# Altium footprint library Devindia_v2.0.PcbLib: 105 footprints (part 2 of 7)
Each footprint in its own frame and in the unit in brackets; x right, y up, seen from the top. Pads: shape width x height; smd on the part's side, far side on the other; paste and mask are expansions set on the pad; w line width, h text height; cw(c..) or ccw(c..) is an arc to the next point about the centre after c.
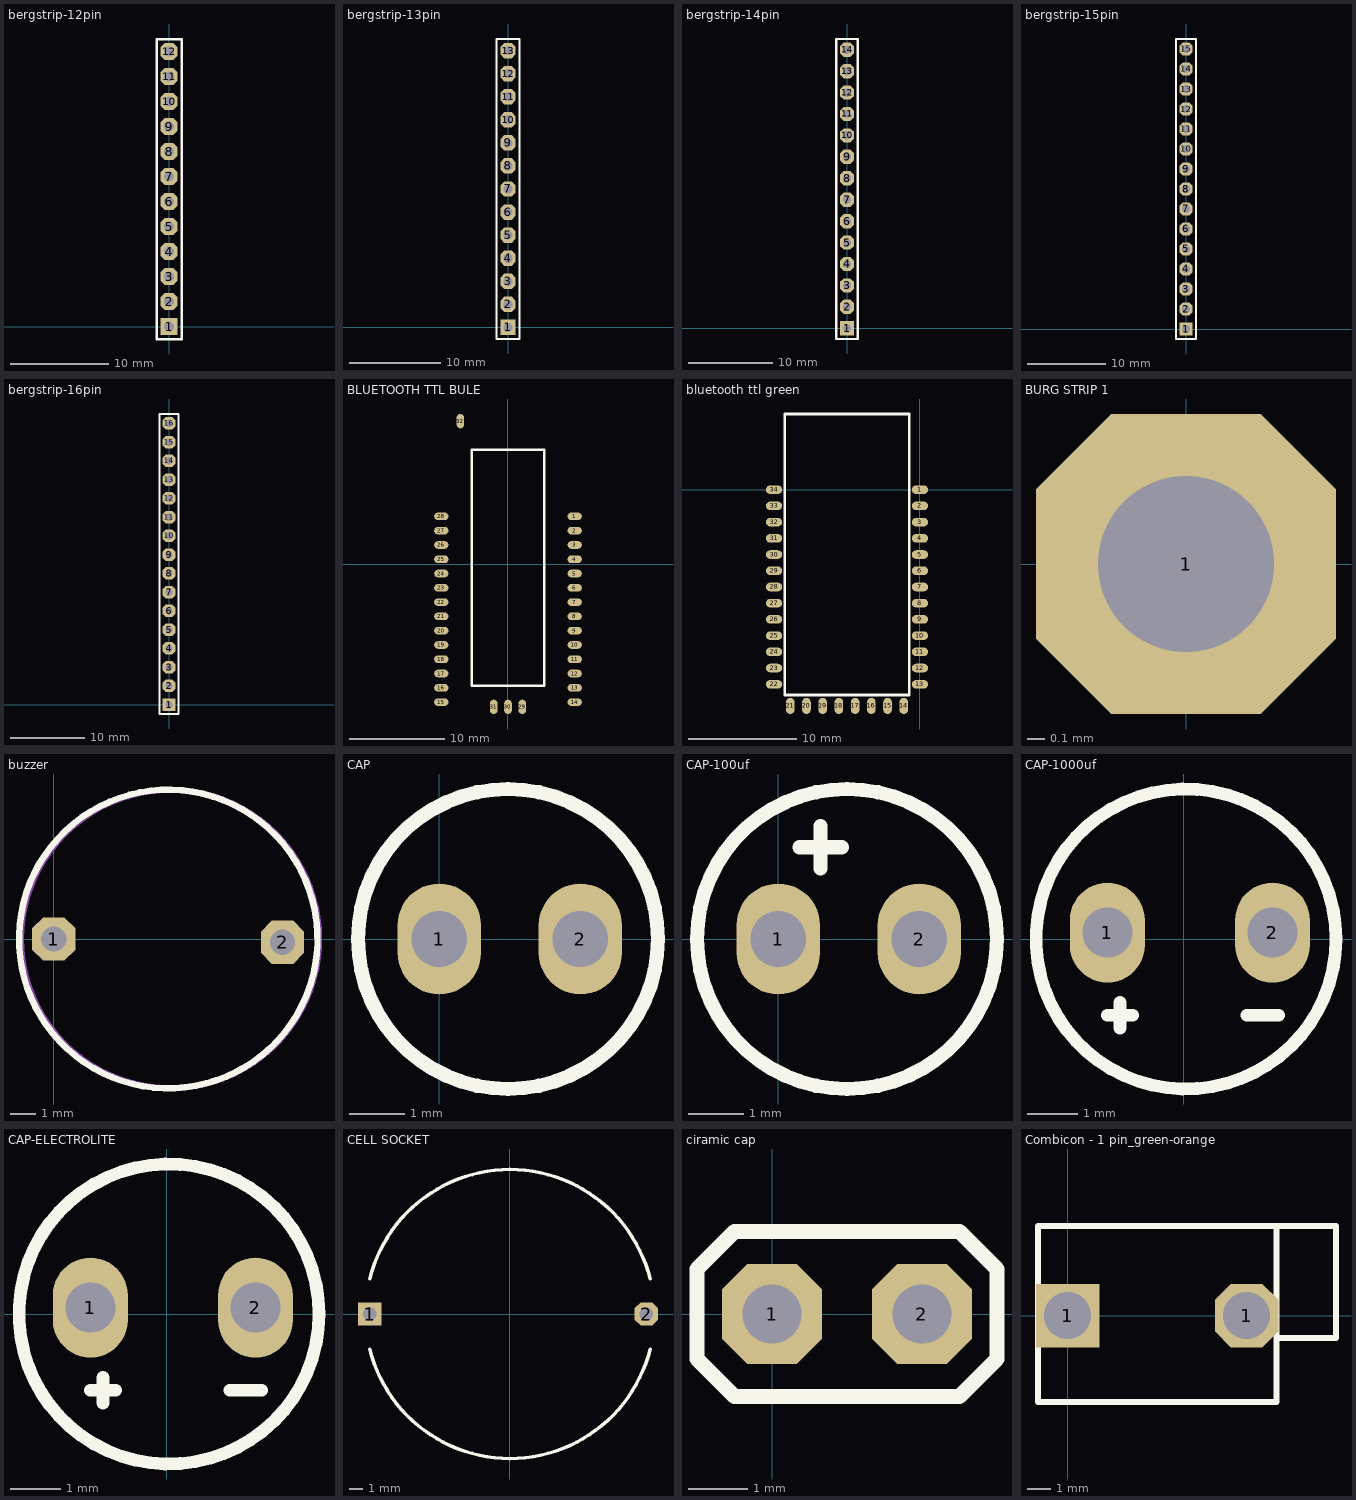
[diagram p1: the footprints below, top view; thin cyan lines are the x and y axes]

## bergstrip-12pin [mm]
pads (12):
  rect 1.7x1.7 hole 1: 1(0,0)
  oct 1.7x1.7 hole 1: 2(0,2.54) 3(0,5.08) 4(0,7.62) 5(0,10.16) 6(0,12.7) 7(0,15.24) 8(0,17.78) 9(0,20.32) 10(0,22.86) 11(0,25.4) 12(0,27.94)
Top Overlay:
  lines w0.254: -1.27,-1.27 -1.27,29.21 1.27,29.21 1.27,-1.27 -1.27,-1.27
3D body: height 9.89, standoff 2, extent -0.49,-0.508 0.508,0.488
3D body: height 2, standoff 0, extent -1.27,-1.27 1.27,1.27
3D body: height 9.89, standoff 2, extent -0.49,2.032 0.508,3.028
3D body: height 2, standoff 0, extent -1.27,1.27 1.27,3.81
3D body: height 9.89, standoff 2, extent -0.49,4.572 0.508,5.568
3D body: height 2, standoff 0, extent -1.27,3.81 1.27,6.35
3D body: height 9.89, standoff 2, extent -0.49,7.112 0.508,8.108
3D body: height 2, standoff 0, extent -1.27,6.35 1.27,8.89
3D body: height 9.89, standoff 2, extent -0.49,9.652 0.508,10.648
3D body: height 2, standoff 0, extent -1.27,8.89 1.27,11.43
3D body: height 9.89, standoff 2, extent -0.49,12.192 0.508,13.188
3D body: height 2, standoff 0, extent -1.27,11.43 1.27,13.97
3D body: height 9.89, standoff 2, extent -0.49,14.732 0.508,15.728
3D body: height 2, standoff 0, extent -1.27,13.97 1.27,16.51
3D body: height 9.89, standoff 2, extent -0.49,17.272 0.508,18.268
3D body: height 2, standoff 0, extent -1.27,16.51 1.27,19.05
3D body: height 9.89, standoff 2, extent -0.49,19.812 0.508,20.808
3D body: height 2, standoff 0, extent -1.27,19.05 1.27,21.59
3D body: height 9.89, standoff 2, extent -0.49,22.352 0.508,23.348
3D body: height 2, standoff 0, extent -1.27,21.59 1.27,24.13
3D body: height 9.89, standoff 2, extent -0.49,24.892 0.508,25.888
3D body: height 2, standoff 0, extent -1.27,24.13 1.27,26.67
3D body: height 9.89, standoff 2, extent -0.49,27.432 0.508,28.428
3D body: height 2, standoff 0, extent -1.27,26.67 1.27,29.21

## bergstrip-13pin [mm]
pads (13):
  rect 1.7x1.7 hole 1: 1(0,0)
  oct 1.7x1.7 hole 1: 2(0,2.54) 3(0,5.08) 4(0,7.62) 5(0,10.16) 6(0,12.7) 7(0,15.24) 8(0,17.78) 9(0,20.32) 10(0,22.86) 11(0,25.4) 12(0,27.94) 13(0,30.48)
Top Overlay:
  lines w0.254: -1.27,-1.27 1.27,-1.27 1.27,31.75 -1.27,31.75 -1.27,-1.27
3D body: height 2, standoff 0, extent -1.27,29.21 1.27,31.75
3D body: height 9.89, standoff 2, extent -0.49,29.972 0.508,30.968
3D body: height 2, standoff 0, extent -1.27,26.67 1.27,29.21
3D body: height 9.89, standoff 2, extent -0.49,27.432 0.508,28.428
3D body: height 2, standoff 0, extent -1.27,24.13 1.27,26.67
3D body: height 9.89, standoff 2, extent -0.49,24.892 0.508,25.888
3D body: height 2, standoff 0, extent -1.27,21.59 1.27,24.13
3D body: height 9.89, standoff 2, extent -0.49,22.352 0.508,23.348
3D body: height 2, standoff 0, extent -1.27,19.05 1.27,21.59
3D body: height 9.89, standoff 2, extent -0.49,19.812 0.508,20.808
3D body: height 2, standoff 0, extent -1.27,16.51 1.27,19.05
3D body: height 9.89, standoff 2, extent -0.49,17.272 0.508,18.268
3D body: height 2, standoff 0, extent -1.27,13.97 1.27,16.51
3D body: height 9.89, standoff 2, extent -0.49,14.732 0.508,15.728
3D body: height 2, standoff 0, extent -1.27,11.43 1.27,13.97
3D body: height 9.89, standoff 2, extent -0.49,12.192 0.508,13.188
3D body: height 2, standoff 0, extent -1.27,8.89 1.27,11.43
3D body: height 9.89, standoff 2, extent -0.49,9.652 0.508,10.648
3D body: height 2, standoff 0, extent -1.27,6.35 1.27,8.89
3D body: height 9.89, standoff 2, extent -0.49,7.112 0.508,8.108
3D body: height 2, standoff 0, extent -1.27,3.81 1.27,6.35
3D body: height 9.89, standoff 2, extent -0.49,4.572 0.508,5.568
3D body: height 2, standoff 0, extent -1.27,1.27 1.27,3.81
3D body: height 9.89, standoff 2, extent -0.49,2.032 0.508,3.028
3D body: height 2, standoff 0, extent -1.27,-1.27 1.27,1.27
3D body: height 9.89, standoff 2, extent -0.49,-0.508 0.508,0.488

## bergstrip-14pin [mm]
pads (14):
  rect 1.7x1.7 hole 1: 1(0,0)
  oct 1.7x1.7 hole 1: 2(0,2.54) 3(0,5.08) 4(0,7.62) 5(0,10.16) 6(0,12.7) 7(0,15.24) 8(0,17.78) 9(0,20.32) 10(0,22.86) 11(0,25.4) 12(0,27.94) 13(0,30.48) 14(0,33.02)
Top Overlay:
  lines w0.254: -1.27,-1.27 1.27,-1.27 1.27,34.29 -1.27,34.29 -1.27,-1.27
3D body: height 9.89, standoff 2, extent -0.49,-0.508 0.508,0.488
3D body: height 2, standoff 0, extent -1.27,-1.27 1.27,1.27
3D body: height 9.89, standoff 2, extent -0.49,2.032 0.508,3.028
3D body: height 2, standoff 0, extent -1.27,1.27 1.27,3.81
3D body: height 9.89, standoff 2, extent -0.49,4.572 0.508,5.568
3D body: height 2, standoff 0, extent -1.27,3.81 1.27,6.35
3D body: height 9.89, standoff 2, extent -0.49,7.112 0.508,8.108
3D body: height 2, standoff 0, extent -1.27,6.35 1.27,8.89
3D body: height 9.89, standoff 2, extent -0.49,9.652 0.508,10.648
3D body: height 2, standoff 0, extent -1.27,8.89 1.27,11.43
3D body: height 9.89, standoff 2, extent -0.49,12.192 0.508,13.188
3D body: height 2, standoff 0, extent -1.27,11.43 1.27,13.97
3D body: height 9.89, standoff 2, extent -0.49,14.732 0.508,15.728
3D body: height 2, standoff 0, extent -1.27,13.97 1.27,16.51
3D body: height 9.89, standoff 2, extent -0.49,17.272 0.508,18.268
3D body: height 2, standoff 0, extent -1.27,16.51 1.27,19.05
3D body: height 9.89, standoff 2, extent -0.49,19.812 0.508,20.808
3D body: height 2, standoff 0, extent -1.27,19.05 1.27,21.59
3D body: height 9.89, standoff 2, extent -0.49,22.352 0.508,23.348
3D body: height 2, standoff 0, extent -1.27,21.59 1.27,24.13
3D body: height 9.89, standoff 2, extent -0.49,24.892 0.508,25.888
3D body: height 2, standoff 0, extent -1.27,24.13 1.27,26.67
3D body: height 9.89, standoff 2, extent -0.49,27.432 0.508,28.428
3D body: height 2, standoff 0, extent -1.27,26.67 1.27,29.21
3D body: height 9.89, standoff 2, extent -0.49,29.972 0.508,30.968
3D body: height 2, standoff 0, extent -1.27,29.21 1.27,31.75
3D body: height 9.89, standoff 2, extent -0.49,32.512 0.508,33.508
3D body: height 2, standoff 0, extent -1.27,31.75 1.27,34.29

## bergstrip-15pin [mm]
pads (15):
  rect 1.7x1.7 hole 1: 1(0,0)
  oct 1.7x1.7 hole 1: 2(0,2.54) 3(0,5.08) 4(0,7.62) 5(0,10.16) 6(0,12.7) 7(0,15.24) 8(0,17.78) 9(0,20.32) 10(0,22.86) 11(0,25.4) 12(0,27.94) 13(0,30.48) 14(0,33.02) 15(0,35.56)
Top Overlay:
  lines w0.254: -1.27,-1.27 1.27,-1.27 1.27,36.83 -1.27,36.83 -1.27,-1.27
3D body: height 9.89, standoff 2, extent -0.49,-0.508 0.508,0.488
3D body: height 2, standoff 0, extent -1.27,-1.27 1.27,1.27
3D body: height 9.89, standoff 2, extent -0.49,2.032 0.508,3.028
3D body: height 2, standoff 0, extent -1.27,1.27 1.27,3.81
3D body: height 9.89, standoff 2, extent -0.49,4.572 0.508,5.568
3D body: height 2, standoff 0, extent -1.27,3.81 1.27,6.35
3D body: height 9.89, standoff 2, extent -0.49,7.112 0.508,8.108
3D body: height 2, standoff 0, extent -1.27,6.35 1.27,8.89
3D body: height 9.89, standoff 2, extent -0.49,9.652 0.508,10.648
3D body: height 2, standoff 0, extent -1.27,8.89 1.27,11.43
3D body: height 9.89, standoff 2, extent -0.49,12.192 0.508,13.188
3D body: height 2, standoff 0, extent -1.27,11.43 1.27,13.97
3D body: height 9.89, standoff 2, extent -0.49,14.732 0.508,15.728
3D body: height 2, standoff 0, extent -1.27,13.97 1.27,16.51
3D body: height 9.89, standoff 2, extent -0.49,17.272 0.508,18.268
3D body: height 2, standoff 0, extent -1.27,16.51 1.27,19.05
3D body: height 9.89, standoff 2, extent -0.49,19.812 0.508,20.808
3D body: height 2, standoff 0, extent -1.27,19.05 1.27,21.59
3D body: height 9.89, standoff 2, extent -0.49,22.352 0.508,23.348
3D body: height 2, standoff 0, extent -1.27,21.59 1.27,24.13
3D body: height 9.89, standoff 2, extent -0.49,24.892 0.508,25.888
3D body: height 2, standoff 0, extent -1.27,24.13 1.27,26.67
3D body: height 9.89, standoff 2, extent -0.49,27.432 0.508,28.428
3D body: height 2, standoff 0, extent -1.27,26.67 1.27,29.21
3D body: height 9.89, standoff 2, extent -0.49,29.972 0.508,30.968
3D body: height 2, standoff 0, extent -1.27,29.21 1.27,31.75
3D body: height 9.89, standoff 2, extent -0.49,32.512 0.508,33.508
3D body: height 2, standoff 0, extent -1.27,31.75 1.27,34.29
3D body: height 9.89, standoff 2, extent -0.49,35.052 0.508,36.048
3D body: height 2, standoff 0, extent -1.27,34.29 1.27,36.83

## bergstrip-16pin [mm]
pads (16):
  rect 1.7x1.7 hole 1: 1(0,0)
  oct 1.7x1.7 hole 1: 2(0,2.54) 3(0,5.08) 4(0,7.62) 5(0,10.16) 6(0,12.7) 7(0,15.24) 8(0,17.78) 9(0,20.32) 10(0,22.86) 11(0,25.4) 12(0,27.94) 13(0,30.48) 14(0,33.02) 15(0,35.56) 16(0,38.1)
Top Overlay:
  lines w0.254: -1.27,-1.27 1.27,-1.27 1.27,39.37 -1.27,39.37 -1.27,-1.27
3D body: height 9.89, standoff 2, extent -0.49,37.592 0.508,38.588
3D body: height 2, standoff 0, extent -1.27,36.83 1.27,39.37
3D body: height 2, standoff 0, extent -1.27,34.29 1.27,36.83
3D body: height 9.89, standoff 2, extent -0.49,35.052 0.508,36.048
3D body: height 2, standoff 0, extent -1.27,31.75 1.27,34.29
3D body: height 9.89, standoff 2, extent -0.49,32.512 0.508,33.508
3D body: height 2, standoff 0, extent -1.27,29.21 1.27,31.75
3D body: height 9.89, standoff 2, extent -0.49,29.972 0.508,30.968
3D body: height 2, standoff 0, extent -1.27,26.67 1.27,29.21
3D body: height 9.89, standoff 2, extent -0.49,27.432 0.508,28.428
3D body: height 2, standoff 0, extent -1.27,24.13 1.27,26.67
3D body: height 9.89, standoff 2, extent -0.49,24.892 0.508,25.888
3D body: height 2, standoff 0, extent -1.27,21.59 1.27,24.13
3D body: height 9.89, standoff 2, extent -0.49,22.352 0.508,23.348
3D body: height 2, standoff 0, extent -1.27,19.05 1.27,21.59
3D body: height 9.89, standoff 2, extent -0.49,19.812 0.508,20.808
3D body: height 2, standoff 0, extent -1.27,16.51 1.27,19.05
3D body: height 9.89, standoff 2, extent -0.49,17.272 0.508,18.268
3D body: height 2, standoff 0, extent -1.27,13.97 1.27,16.51
3D body: height 9.89, standoff 2, extent -0.49,14.732 0.508,15.728
3D body: height 2, standoff 0, extent -1.27,11.43 1.27,13.97
3D body: height 9.89, standoff 2, extent -0.49,12.192 0.508,13.188
3D body: height 2, standoff 0, extent -1.27,8.89 1.27,11.43
3D body: height 9.89, standoff 2, extent -0.49,9.652 0.508,10.648
3D body: height 2, standoff 0, extent -1.27,6.35 1.27,8.89
3D body: height 9.89, standoff 2, extent -0.49,7.112 0.508,8.108
3D body: height 2, standoff 0, extent -1.27,3.81 1.27,6.35
3D body: height 9.89, standoff 2, extent -0.49,4.572 0.508,5.568
3D body: height 2, standoff 0, extent -1.27,1.27 1.27,3.81
3D body: height 9.89, standoff 2, extent -0.49,2.032 0.508,3.028
3D body: height 2, standoff 0, extent -1.27,-1.27 1.27,1.27
3D body: height 9.89, standoff 2, extent -0.49,-0.508 0.508,0.488

## BLUETOOTH TTL BULE [mm]
pads (32):
  oval 1.5x0.8 all layers, no hole: 1(7,5) 2(7,3.5) 3(7,2) 4(7,0.5) 5(7,-1) 6(7,-2.5) 7(7,-4) 8(7,-5.5) 9(7,-7) 10(7,-8.5) 11(7,-10) 12(7,-11.5) 13(7,-13) 14(7,-14.5) 15(-7,-14.5) 16(-7,-13) 17(-7,-11.5) 18(-7,-10) 19(-7,-8.5) 20(-7,-7) 21(-7,-5.5) 22(-7,-4) 23(-7,-2.5) 24(-7,-1) 25(-7,0.5) 26(-7,2) 27(-7,3.5) 28(-7,5)
  oval 0.8x1.5 all layers, no hole: 29(1.5,-15) 30(0,-15) 31(-1.5,-15) 32(-5,15)
Top Overlay:
  lines w0.254: -3.795,-12.78 3.825,-12.78 3.825,11.985 -3.795,11.985 -3.795,-12.78
3D body: height 3, standoff 2, extent -1.746,-11.684 -0.794,-11.049
3D body: height 3, standoff 2, extent -1.746,-12.954 -0.794,-12.319
3D body: height 3, standoff 2, extent 0.572,-1.079 1.524,-0.445
3D body: height 3, standoff 2, extent 2.476,-0.73 3.111,-0.254
3D body: height 3, standoff 2, extent 3.429,-0.73 4.064,0.222
3D body: height 2, standoff 0.5, extent -6.604,-14.732 6.858,14.732
3D body: height 3, standoff 2, extent -0.127,-12.7 4.191,-8.89
3D body: height 3, standoff 2, extent -0.127,-7.874 4.191,-1.27
3D body: height 3, standoff 2, extent -4.191,11.557 0.127,12.446
3D body: height 3, standoff 2, extent -3.683,-4.508 -2.54,-2.095
3D body: height 5, standoff 2, extent -0.762,11.688 -0.264,12.188

## bluetooth ttl green [mm]
pads (34):
  oval 1.5x0.8 all layers, no hole: 1(0,0) 2(0,-1.5) 3(0,-3) 4(0,-4.5) 5(0,-6) 6(0,-7.5) 7(0,-9) 8(0,-10.5) 9(0,-12) 10(0,-13.5) 11(0,-15) 12(0,-16.5) 13(0,-18) 22(-13.5,-18) 23(-13.5,-16.5) 24(-13.5,-15) 25(-13.5,-13.5) 26(-13.5,-12) 27(-13.5,-10.5) 28(-13.5,-9) 29(-13.5,-7.5) 30(-13.5,-6) 31(-13.5,-4.5) 32(-13.5,-3) 33(-13.5,-1.5) 34(-13.5,0)
  oval 0.8x1.5 all layers, no hole: 14(-1.5,-20) 15(-3,-20) 16(-4.5,-20) 17(-6,-20) 18(-7.5,-20) 19(-9,-20) 20(-10.5,-20) 21(-12,-20)
Top Overlay:
  lines w0.254: -12.5,-19 -1,-19 -1,7 -12.5,7 -12.5,-19
3D body: height 2, standoff 0.5, extent -12.954,-19.812 -0.508,7.112
3D body: height 3, standoff 1, extent -6.604,-18.796 -1.524,-14.732
3D body: height 3, standoff 1, extent -6.604,-12.7 -1.524,-6.35
3D body: height 3, standoff 1, extent -11.43,-8.763 -9.652,-6.477
3D body: height 3, standoff 1, extent -4.064,-5.651 -3.048,-5.016
3D body: height 3, standoff 1, extent -11.049,-11.43 -10.414,-10.414
3D body: height 3, standoff 1, extent -6.35,-13.779 -5.334,-13.462
3D body: height 3, standoff 1, extent -4.572,-13.779 -3.556,-13.462
3D body: height 3, standoff 1, extent -2.794,-13.97 -1.778,-13.335

## BURG STRIP 1 [mm]
pads (1):
  oct 1.7x1.7 hole 1: 1(0,0)
3D body: height 2, standoff 0, extent -1.016,-1.016 1.016,1.016
3D body: height 9.89, standoff 2, extent -0.49,-0.508 0.508,0.488

## buzzer [mm]
pads (2):
  oct 1.7x1.7 hole 1: 1(0,0) 2(9,-0.127)
Top Overlay:
  lines w0.254: 10.335,0.729 ccw(c4.505,0) 10.344,0.649
Mechanical 1:
  circle w0.254: c4.572,0 r5.864
3D body: height 5, standoff 0, extent -1.27,-5.842 10.424,5.875

## CAP [mm]
pads (2):
  oval 1.5x2 hole 1: 1(0,0) 2(2.54,0)
Top Overlay:
  circle w0.254: c1.237,0 r2.7
3D body: height 7, standoff 0, extent -1.754,-3.042 4.318,3.042
3D body: height 7.01, standoff 7, extent -0.508,-2.032 3.476,1.96

## CAP-100uf [mm]
pads (2):
  oval 1.5x2 hole 1: 1(0,0) 2(2.54,0)
Top Overlay:
  circle w0.254: c1.237,0 r2.7
  lines w0.254: 0.381,1.651 1.143,1.651 ; 0.762,1.27 0.762,2.032
3D body: height 7.01, standoff 7, extent -0.508,-2.032 3.476,1.96
3D body: height 7, standoff 0, extent -1.754,-3.042 4.318,3.042

## CAP-1000uf [mm]
pads (2):
  oval 1.5x2 hole 1: 1(-1.524,0.127) 2(1.778,0.127)
Top Overlay:
  circle w0.254: c0.048,0 r3
  lines w0.254: -1.524,-1.524 -1.016,-1.524 ; -1.27,-1.778 -1.27,-1.27 ; 1.27,-1.524 1.905,-1.524
3D body: height 10, standoff 0, extent -3.024,-3.048 3.048,3.036
3D body: height 10.1, standoff 10, extent -2.032,-2.032 1.952,1.96

## CAP-ELECTROLITE [mm]
pads (2):
  oval 1.5x2 hole 1: 1(-1.524,0.127) 2(1.778,0.127)
Top Overlay:
  circle w0.254: c0.048,0 r3
  lines w0.254: -1.524,-1.524 -1.016,-1.524 ; -1.27,-1.778 -1.27,-1.27 ; 1.27,-1.524 1.905,-1.524
3D body: height 10.1, standoff 10, extent -2.032,-2.032 1.952,1.96
3D body: height 10, standoff 0, extent -3.024,-3.048 3.048,3.036

## CELL SOCKET [mm]
pads (2):
  rect 1.7x1.7 hole 1: 1(-10.16,0)
  oct 1.7x1.7 hole 1: 2(9.88,0)
Top Overlay:
  lines w0.254: -10.16,-2.54 ccw(c0,0) 10.16,-2.54 ; -10.16,2.54 cw(c0,0) 10.16,2.54
3D body: height 5.3, standoff 4.3, extent -10.506,-9.039 7.458,8.89
3D body: height 4.3, standoff 0, extent -12.657,-11.049 9.355,11.007
3D body: height 8.7, standoff 0, extent 8.247,-4.033 12.311,3.714

## ciramic cap [mm]
height 2
pads (2):
  oct 1.7x1.7 hole 1: 1(0,0) 2(2.54,0)
Top Overlay:
  lines w0.254: -1.27,-0.762 -1.27,0.762 -0.635,1.397 3.175,1.397 3.81,0.762 3.81,-0.762 3.175,-1.397 -0.635,-1.397 -1.27,-0.762
3D body: height 3.98, standoff 0, extent -0.726,-0.492 3.266,0.508
3D body: height 2, standoff 0, extent -0.127,-0.254 0.127,0.254
3D body: height 2, standoff 0, extent 2.413,-0.254 2.667,0.254

## Combicon - 1 pin_green-orange [mm]
pads (2):
  rect 2.7x2.7 hole 2: 1(0,0)
  oct 2.7x2.7 hole 2: 1(7.62,0)
Top Overlay:
  lines w0.254: 8.956,-0.95 11.43,-0.95 11.43,3.81 8.89,3.81 ; 8.89,3.81 8.89,-3.67 -1.27,-3.67 -1.27,0.07 -1.27,3.81 8.89,3.81
3D body: height 13.66, standoff 7.75, extent 8.89,-1.016 11.43,3.81
3D body: height 13.5, standoff 13, extent 5.969,-1.503 8.864,1.397
3D body: height 13, standoff 0, extent -1.27,-3.683 8.89,3.81